# EAGLE library part LTC2208_FLAT (library lstolcman_thesis)
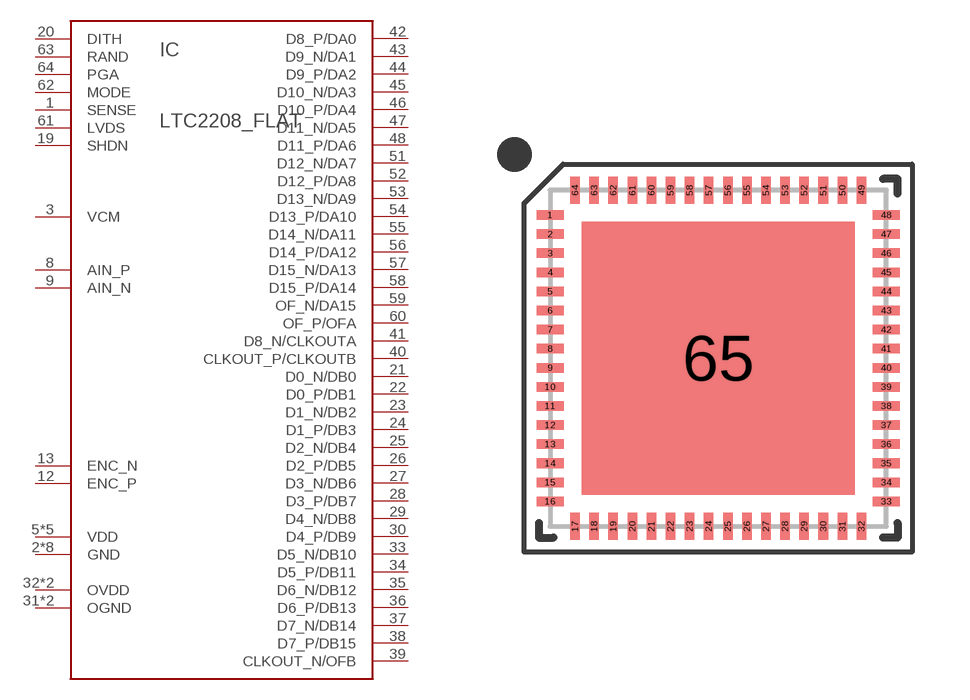
[diagram p1: symbol with the pads of QFN64; footprint QFN64]

Designator prefix IC

## LTC2208_FLAT  [QFN64]
1  SENSE
2  GND  pwr
3  VCM  pwr
4  GND  pwr
5  VDD  pwr
6  VDD  pwr
7  GND  pwr
8  AIN_P
9  AIN_N
10  GND  pwr
11  GND  pwr
12  ENC_P
13  ENC_N
14  GND  pwr
15  VDD  pwr
16  VDD  pwr
17  VDD  pwr
18  GND  pwr
19  SHDN
20  DITH
21  D0_N/DB0
22  D0_P/DB1
23  D1_N/DB2
24  D1_P/DB3
25  D2_N/DB4
26  D2_P/DB5
27  D3_N/DB6
28  D3_P/DB7
29  D4_N/DB8
30  D4_P/DB9
31  OGND  pwr
32  OVDD  pwr
33  D5_N/DB10
34  D5_P/DB11
35  D6_N/DB12
36  D6_P/DB13
37  D7_N/DB14
38  D7_P/DB15
39  CLKOUT_N/OFB
40  CLKOUT_P/CLKOUTB
41  D8_N/CLKOUTA
42  D8_P/DA0
43  D9_N/DA1
44  D9_P/DA2
45  D10_N/DA3
46  D10_P/DA4
47  D11_N/DA5
48  D11_P/DA6
49  OVDD  pwr
50  OGND  pwr
51  D12_N/DA7
52  D12_P/DA8
53  D13_N/DA9
54  D13_P/DA10
55  D14_N/DA11
56  D14_P/DA12
57  D15_N/DA13
58  D15_P/DA14
59  OF_N/DA15
60  OF_P/OFA
61  LVDS
62  MODE
63  RAND
64  PGA
65  GND  pwr

## Footprint QFN64 (pad centres in mm)
UP Package 64-Lead Plastic QFN (9mm × 9mm) (Reference LTC DWG # 05-08-1705 Rev C) http://www.linear.com/docs/38765
smd 0.7 x 0.25: 1 -4.4,3.75; 2 -4.4,3.25; 3 -4.4,2.75; 4 -4.4,2.25; 5 -4.4,1.75; 6 -4.4,1.25; 7 -4.4,0.75; 8 -4.4,0.25; 9 -4.4,-0.25; 10 -4.4,-0.75; 11 -4.4,-1.25; 12 -4.4,-1.75; 13 -4.4,-2.25; 14 -4.4,-2.75; 15 -4.4,-3.25; 16 -4.4,-3.75; 33 4.4,-3.75; 34 4.4,-3.25; 35 4.4,-2.75; 36 4.4,-2.25; 37 4.4,-1.75; 38 4.4,-1.25; 39 4.4,-0.75; 40 4.4,-0.25; 41 4.4,0.25; 42 4.4,0.75; 43 4.4,1.25; 44 4.4,1.75; 45 4.4,2.25; 46 4.4,2.75; 47 4.4,3.25; 48 4.4,3.75
smd 0.25 x 0.7: 17 -3.75,-4.4; 18 -3.25,-4.4; 19 -2.75,-4.4; 20 -2.25,-4.4; 21 -1.75,-4.4; 22 -1.25,-4.4; 23 -0.75,-4.4; 24 -0.25,-4.4; 25 0.25,-4.4; 26 0.75,-4.4; 27 1.25,-4.4; 28 1.75,-4.4; 29 2.25,-4.4; 30 2.75,-4.4; 31 3.25,-4.4; 32 3.75,-4.4; 49 3.75,4.4; 50 3.25,4.4; 51 2.75,4.4; 52 2.25,4.4; 53 1.75,4.4; 54 1.25,4.4; 55 0.75,4.4; 56 0.25,4.4; 57 -0.25,4.4; 58 -0.75,4.4; 59 -1.25,4.4; 60 -1.75,4.4; 61 -2.25,4.4; 62 -2.75,4.4; 63 -3.25,4.4; 64 -3.75,4.4
smd 7.15 x 7.15: 65 0,0